# EAGLE library part ILD6150_LED_DRIVER (library lolomolo)
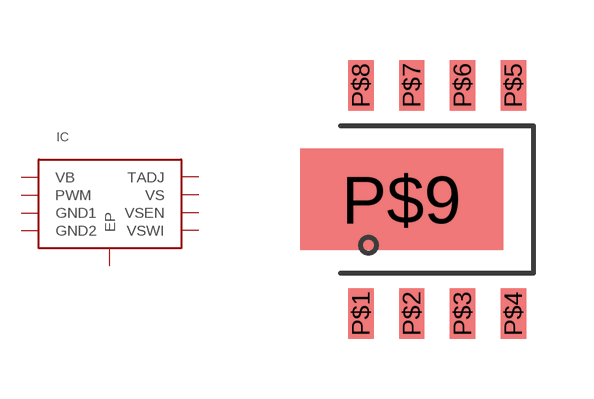
[diagram p15: symbol with the pads of PG-DSO-8-27; footprint PG-DSO-8-27]

Designator prefix IC

## ILD6150_LED_DRIVER  [PG-DSO-8-27]
P$1  VB
P$2  PWM
P$3  GND1
P$4  GND2
P$5  VSWI
P$6  VSEN
P$7  VS
P$8  TADJ
P$9  EP

## Footprint PG-DSO-8-27 (pad centres in mm)
smd 0.635 x 1.27: P$1 0,0; P$2 1.27,0; P$3 2.54,0; P$4 3.81,0; P$5 3.81,5.715; P$6 2.54,5.715; P$7 1.27,5.715; P$8 0,5.715
smd 5.08 x 2.54: P$9 1.016,2.857